# Altium integrated library DCJ200-10-A-XX-X_REVA.IntLib: 1 symbol
Pins are listed as number, name and electrical type; pins without a type are passive.

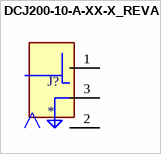
[diagram p0: symbol DCJ200-10-A-XX-X_REVA]

## DCJ200-10-A-XX-X_REVA
designator J?
Power Barrel Connector Jack 2.05mm ID (0.081"), 5.50mm OD (0.217") Through Hole, Right Angle; MF: Global Connector Technology; MP: DCJ200-10-A-K1-K; Package: None; Price: None; Availability: Unavailable; Check_prices: https://www.snapeda.com/parts/DCJ200-10-A-K1-K/Global+Connector+Technology/view-part/?ref=eda; SnapEDA_Link: https://www.snapeda.com/parts/DCJ200-10-A-K1-K/Global+Connector+Technology/view-part/?ref=snap; Value: *
footprint GCT_DCJ200-10-A-XX-X_REVA
pins: 1, 2, 3